# Altium footprint library LQFP.PcbLib: 6 footprints
Each footprint in its own frame and in the unit in brackets; x right, y up, seen from the top. Pads: shape width x height; smd on the part's side, far side on the other; paste and mask are expansions set on the pad; w line width, h text height; cw(c..) or ccw(c..) is an arc to the next point about the centre after c.
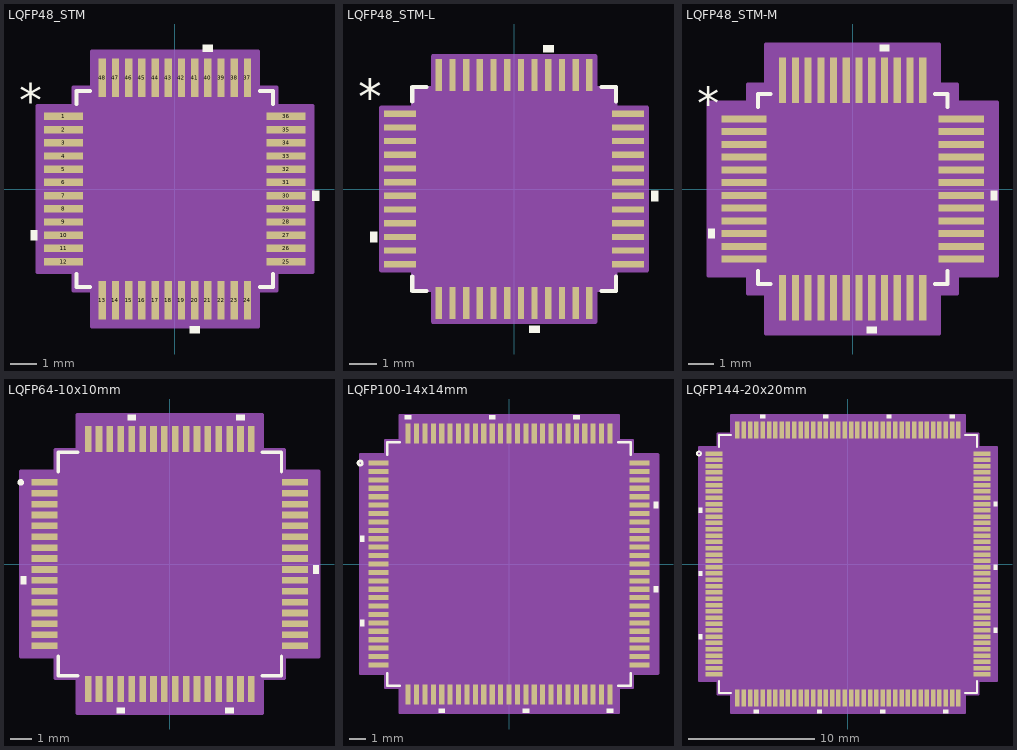
[diagram p0: the footprints below, top view; thin cyan lines are the x and y axes]

## LQFP48_STM [mil]
pads (48):
  rect 58x11 smd paste+0 mask+0: 1(-166,108.27) 2(-166,88.58) 3(-166,68.9) 4(-166,49.21) 5(-166,29.53) 6(-166,9.84) 7(-166,-9.84) 8(-166,-29.53) 9(-166,-49.21) 10(-166,-68.9) 11(-166,-88.58) 12(-166,-108.27) 25(166,-108.27) 26(166,-88.58) 27(166,-68.9) 28(166,-49.21) 29(166,-29.53) 30(166,-9.84) 31(166,9.84) 32(166,29.53) 33(166,49.21) 34(166,68.9) 35(166,88.58) 36(166,108.27)
  rect 11x58 smd paste+0 mask+0: 13(-108.27,-166) 14(-88.58,-166) 15(-68.9,-166) 16(-49.21,-166) 17(-29.53,-166) 18(-9.84,-166) 19(9.84,-166) 20(29.53,-166) 21(49.21,-166) 22(68.9,-166) 23(88.58,-166) 24(108.27,-166) 37(108.27,166) 38(88.58,166) 39(68.9,166) 40(49.21,166) 41(29.53,166) 42(9.84,166) 43(-9.84,166) 44(-29.53,166) 45(-49.21,166) 46(-68.9,166) 47(-88.58,166) 48(-108.27,166)
Top Overlay:
  region: 56.71,205 41.71,205 41.71,215 56.71,215
  region: 205,-2.34 215,-2.34 215,-17.34 205,-17.34
  region: 37.03,-205 22.03,-205 22.03,-215 37.03,-215
  region: -205,-61.4 -215,-61.4 -215,-76.4 -205,-76.4
  lines w6: -146.5,-126.87 -146.5,-146.5 -126.87,-146.5 ; -146.5,126.87 -146.5,146.5 -126.87,146.5 ; 126.87,-146.5 146.5,-146.5 146.5,-126.87 ; 126.87,146.5 146.5,146.5 146.5,126.87
  text "*" at -232.5,108.11 h50
Mechanical 13:
  drawing of 197 lines, arcs and shapes, not listed
  text "*" at -139,93.11 h50
Mechanical 15:
  region: -123.77,-151.5 -151.5,-151.5 -151.5,-123.77 -205,-123.77 -205,123.77 -151.5,123.77 -151.5,151.5 -123.77,151.5 -123.77,205 123.77,205 123.77,151.5 151.5,151.5 151.5,123.77 205,123.77 205,-123.77 151.5,-123.77 151.5,-151.5 123.77,-151.5 123.77,-205 -123.77,-205
  lines w6: -205,-123.77 -205,123.77 -151.5,123.77 -151.5,151.5 -123.77,151.5 -123.77,205 123.77,205 123.77,151.5 151.5,151.5 151.5,123.77 205,123.77 205,-123.77 151.5,-123.77 151.5,-151.5 123.77,-151.5 123.77,-205 -123.77,-205 -123.77,-151.5 -151.5,-151.5 -151.5,-123.77 -205,-123.77
3D body "LQFP48_STM.step": height 63.11, standoff 0, extent -180.98,-180.98 180.98,180.98

## LQFP48_STM-L [mil]
pads (48):
  rect 46x9 smd paste+0 mask+0: 1(-164,108.27) 2(-164,88.58) 3(-164,68.9) 4(-164,49.21) 5(-164,29.53) 6(-164,9.84) 7(-164,-9.84) 8(-164,-29.53) 9(-164,-49.21) 10(-164,-68.9) 11(-164,-88.58) 12(-164,-108.27) 25(164,-108.27) 26(164,-88.58) 27(164,-68.9) 28(164,-49.21) 29(164,-29.53) 30(164,-9.84) 31(164,9.84) 32(164,29.53) 33(164,49.21) 34(164,68.9) 35(164,88.58) 36(164,108.27)
  rect 9x46 smd paste+0 mask+0: 13(-108.27,-164) 14(-88.58,-164) 15(-68.9,-164) 16(-49.21,-164) 17(-29.53,-164) 18(-9.84,-164) 19(9.84,-164) 20(29.53,-164) 21(49.21,-164) 22(68.9,-164) 23(88.58,-164) 24(108.27,-164) 37(108.27,164) 38(88.58,164) 39(68.9,164) 40(49.21,164) 41(29.53,164) 42(9.84,164) 43(-9.84,164) 44(-29.53,164) 45(-49.21,164) 46(-68.9,164) 47(-88.58,164) 48(-108.27,164)
Top Overlay:
  region: 56.71,197 41.71,197 41.71,207 56.71,207
  region: 197,-2.34 207,-2.34 207,-17.34 197,-17.34
  region: 37.03,-197 22.03,-197 22.03,-207 37.03,-207
  region: -197,-61.4 -207,-61.4 -207,-76.4 -197,-76.4
  lines w6: -146.5,-125.87 -146.5,-146.5 -125.87,-146.5 ; -146.5,125.87 -146.5,146.5 -125.87,146.5 ; 125.87,-146.5 146.5,-146.5 146.5,-125.87 ; 125.87,146.5 146.5,146.5 146.5,125.87
  text "*" at -224.5,108.11 h50
Mechanical 13:
  drawing of 197 lines, arcs and shapes, not listed
  text "*" at -139,93.11 h50
Mechanical 15:
  region: -116.77,-145.5 -145.5,-145.5 -145.5,-116.77 -191,-116.77 -191,116.77 -145.5,116.77 -145.5,145.5 -116.77,145.5 -116.77,191 116.77,191 116.77,145.5 145.5,145.5 145.5,116.77 191,116.77 191,-116.77 145.5,-116.77 145.5,-145.5 116.77,-145.5 116.77,-191 -116.77,-191
  lines w6: -191,-116.77 -191,116.77 -145.5,116.77 -145.5,145.5 -116.77,145.5 -116.77,191 116.77,191 116.77,145.5 145.5,145.5 145.5,116.77 191,116.77 191,-116.77 145.5,-116.77 145.5,-145.5 116.77,-145.5 116.77,-191 -116.77,-191 -116.77,-145.5 -145.5,-145.5 -145.5,-116.77 -191,-116.77
3D body "LQFP48_STM.step": height 63.11, standoff 0, extent -180.98,-180.98 180.98,180.98

## LQFP48_STM-M [mil]
pads (48):
  rect 70x11 smd paste+0 mask+0: 1(-168,108.27) 2(-168,88.58) 3(-168,68.9) 4(-168,49.21) 5(-168,29.53) 6(-168,9.84) 7(-168,-9.84) 8(-168,-29.53) 9(-168,-49.21) 10(-168,-68.9) 11(-168,-88.58) 12(-168,-108.27) 25(168,-108.27) 26(168,-88.58) 27(168,-68.9) 28(168,-49.21) 29(168,-29.53) 30(168,-9.84) 31(168,9.84) 32(168,29.53) 33(168,49.21) 34(168,68.9) 35(168,88.58) 36(168,108.27)
  rect 11x70 smd paste+0 mask+0: 13(-108.27,-168) 14(-88.58,-168) 15(-68.9,-168) 16(-49.21,-168) 17(-29.53,-168) 18(-9.84,-168) 19(9.84,-168) 20(29.53,-168) 21(49.21,-168) 22(68.9,-168) 23(88.58,-168) 24(108.27,-168) 37(108.27,168) 38(88.58,168) 39(68.9,168) 40(49.21,168) 41(29.53,168) 42(9.84,168) 43(-9.84,168) 44(-29.53,168) 45(-49.21,168) 46(-68.9,168) 47(-88.58,168) 48(-108.27,168)
Top Overlay:
  region: -213,-61.4 -223,-61.4 -223,-76.4 -213,-76.4
  region: 37.03,-213 22.03,-213 22.03,-223 37.03,-223
  region: 213,-2.34 223,-2.34 223,-17.34 213,-17.34
  region: 56.71,213 41.71,213 41.71,223 56.71,223
  lines w6: -146.5,-126.87 -146.5,-146.5 -126.87,-146.5 ; -146.5,126.87 -146.5,146.5 -126.87,146.5 ; 126.87,-146.5 146.5,-146.5 146.5,-126.87 ; 126.87,146.5 146.5,146.5 146.5,126.87
  text "*" at -240.5,108.11 h50
Mechanical 13:
  drawing of 197 lines, arcs and shapes, not listed
  text "*" at -139,93.11 h50
Mechanical 15:
  region: -133.77,-161.5 -161.5,-161.5 -161.5,-133.77 -223,-133.77 -223,133.77 -161.5,133.77 -161.5,161.5 -133.77,161.5 -133.77,223 133.77,223 133.77,161.5 161.5,161.5 161.5,133.77 223,133.77 223,-133.77 161.5,-133.77 161.5,-161.5 133.77,-161.5 133.77,-223 -133.77,-223
  lines w6: -223,-133.77 -161.5,-133.77 -161.5,-161.5 -133.77,-161.5 -133.77,-223 133.77,-223 133.77,-161.5 161.5,-161.5 161.5,-133.77 223,-133.77 223,133.77 161.5,133.77 161.5,161.5 133.77,161.5 133.77,223 -133.77,223 -133.77,161.5 -161.5,161.5 -161.5,133.77 -223,133.77 -223,-133.77
3D body "LQFP48_STM.step": height 63.11, standoff 0, extent -180.98,-180.98 180.98,180.98

## LQFP64-10x10mm [mil]
pads (64):
  rect 47x12 smd paste+0 mask+0: 1(-226.38,147.64) 2(-226.38,127.95) 3(-226.38,108.27) 4(-226.38,88.58) 5(-226.38,68.9) 6(-226.38,49.21) 7(-226.38,29.53) 8(-226.38,9.84) 9(-226.38,-9.84) 10(-226.38,-29.53) 11(-226.38,-49.21) 12(-226.38,-68.9) 13(-226.38,-88.58) 14(-226.38,-108.27) 15(-226.38,-127.95) 16(-226.38,-147.64) 33(226.38,-147.64) 34(226.38,-127.95) 35(226.38,-108.27) 36(226.38,-88.58) 37(226.38,-68.9) 38(226.38,-49.21) 39(226.38,-29.53) 40(226.38,-9.84) 41(226.38,9.84) 42(226.38,29.53) 43(226.38,49.21) 44(226.38,68.9) 45(226.38,88.58) 46(226.38,108.27) 47(226.38,127.95) 48(226.38,147.64)
  rect 12x47 smd paste+0 mask+0: 17(-147.64,-226.38) 18(-127.95,-226.38) 19(-108.27,-226.38) 20(-88.58,-226.38) 21(-68.9,-226.38) 22(-49.21,-226.38) 23(-29.53,-226.38) 24(-9.84,-226.38) 25(9.84,-226.38) 26(29.53,-226.38) 27(49.21,-226.38) 28(68.9,-226.38) 29(88.58,-226.38) 30(108.27,-226.38) 31(127.95,-226.38) 32(147.64,-226.38) 49(147.64,226.38) 50(127.95,226.38) 51(108.27,226.38) 52(88.58,226.38) 53(68.9,226.38) 54(49.21,226.38) 55(29.53,226.38) 56(9.84,226.38) 57(-9.84,226.38) 58(-29.53,226.38) 59(-49.21,226.38) 60(-68.9,226.38) 61(-88.58,226.38) 62(-108.27,226.38) 63(-127.95,226.38) 64(-147.64,226.38)
Top Overlay:
  circle w6: c-269.72,147.64 r3
  region: -259.88,-22.03 -269.88,-22.03 -269.88,-37.03 -259.88,-37.03
  region: -81.08,-259.88 -96.08,-259.88 -96.08,-269.88 -81.08,-269.88
  region: 115.77,-259.88 100.77,-259.88 100.77,-269.88 115.77,-269.88
  region: 259.88,-2.34 269.88,-2.34 269.88,-17.34 259.88,-17.34
  region: 135.45,259.88 120.45,259.88 120.45,269.88 135.45,269.88
  region: -61.4,259.88 -76.4,259.88 -76.4,269.88 -61.4,269.88
  lines w6: -202,-166.71 -202,-202 -166.71,-202 ; -202,166.71 -202,202 -166.71,202 ; 166.71,-202 202,-202 202,-166.71 ; 166.71,202 202,202 202,166.71
Mechanical 13:
  circle w0: c-177.88,147.64 r3
  lines w1: -197,147 -147,197 ; -197,-197 197,-197 197,197 -197,197 -197,-197
Mechanical 15:
  region: -167.64,-207 -207,-207 -207,-167.64 -269.88,-167.64 -269.88,167.64 -207,167.64 -207,207 -167.64,207 -167.64,269.88 167.64,269.88 167.64,207 207,207 207,167.64 269.88,167.64 269.88,-167.64 207,-167.64 207,-207 167.64,-207 167.64,-269.88 -167.64,-269.88
  lines w6: -269.88,-167.64 -207,-167.64 -207,-207 -167.64,-207 -167.64,-269.88 167.64,-269.88 167.64,-207 207,-207 207,-167.64 269.88,-167.64 269.88,167.64 207,167.64 207,207 167.64,207 167.64,269.88 -167.64,269.88 -167.64,207 -207,207 -207,167.64 -269.88,167.64 -269.88,-167.64
3D body "LQFP64-10x10mm.step": height 63.11, standoff 0, extent -236.1,-236.1 236.1,236.1

## LQFP100-14x14mm [mil]
pads (100):
  rect 47x12 smd paste+0 mask+0: 1(-305.12,236.22) 2(-305.12,216.54) 3(-305.12,196.85) 4(-305.12,177.17) 5(-305.12,157.48) 6(-305.12,137.8) 7(-305.12,118.11) 8(-305.12,98.43) 9(-305.12,78.74) 10(-305.12,59.06) 11(-305.12,39.37) 12(-305.12,19.69) 13(-305.12,0) 14(-305.12,-19.68) 15(-305.12,-39.37) 16(-305.12,-59.06) 17(-305.12,-78.74) 18(-305.12,-98.43) 19(-305.12,-118.11) 20(-305.12,-137.8) 21(-305.12,-157.48) 22(-305.12,-177.17) 23(-305.12,-196.85) 24(-305.12,-216.54) 25(-305.12,-236.22) 51(305.12,-236.22) 52(305.12,-216.54) 53(305.12,-196.85) 54(305.12,-177.17) 55(305.12,-157.48) 56(305.12,-137.8) 57(305.12,-118.11) 58(305.12,-98.43) 59(305.12,-78.74) 60(305.12,-59.06) 61(305.12,-39.37) 62(305.12,-19.68) 63(305.12,0) 64(305.12,19.68) 65(305.12,39.37) 66(305.12,59.06) 67(305.12,78.74) 68(305.12,98.43) 69(305.12,118.11) 70(305.12,137.8) 71(305.12,157.48) 72(305.12,177.17) 73(305.12,196.85) 74(305.12,216.54) 75(305.12,236.22)
  rect 12x47 smd paste+0 mask+0: 26(-236.22,-305.12) 27(-216.54,-305.12) 28(-196.85,-305.12) 29(-177.17,-305.12) 30(-157.48,-305.12) 31(-137.8,-305.12) 32(-118.11,-305.12) 33(-98.43,-305.12) 34(-78.74,-305.12) 35(-59.06,-305.12) 36(-39.37,-305.12) 37(-19.68,-305.12) 38(0,-305.12) 39(19.68,-305.12) 40(39.37,-305.12) 41(59.06,-305.12) 42(78.74,-305.12) 43(98.43,-305.12) 44(118.11,-305.12) 45(137.8,-305.12) 46(157.48,-305.12) 47(177.17,-305.12) 48(196.85,-305.12) 49(216.54,-305.12) 50(236.22,-305.12) 76(236.22,305.12) 77(216.54,305.12) 78(196.85,305.12) 79(177.17,305.12) 80(157.48,305.12) 81(137.8,305.12) 82(118.11,305.12) 83(98.43,305.12) 84(78.74,305.12) 85(59.06,305.12) 86(39.37,305.12) 87(19.68,305.12) 88(0,305.12) 89(-19.68,305.12) 90(-39.37,305.12) 91(-59.06,305.12) 92(-78.74,305.12) 93(-98.43,305.12) 94(-118.11,305.12) 95(-137.8,305.12) 96(-157.48,305.12) 97(-177.17,305.12) 98(-196.85,305.12) 99(-216.54,305.12) 100(-236.22,305.12)
Top Overlay:
  circle w6: c-348.46,236.22 r5
  region: -228.72,338.62 -243.72,338.62 -243.72,348.62 -228.72,348.62
  region: -31.87,338.62 -46.87,338.62 -46.87,348.62 -31.87,348.62
  region: 164.98,338.62 149.98,338.62 149.98,348.62 164.98,348.62
  region: 338.62,145.3 348.62,145.3 348.62,130.3 338.62,130.3
  region: 338.62,-51.56 348.62,-51.56 348.62,-66.56 338.62,-66.56
  region: 243.72,-338.62 228.72,-338.62 228.72,-348.62 243.72,-348.62
  region: 46.87,-338.62 31.87,-338.62 31.87,-348.62 46.87,-348.62
  region: -149.98,-338.62 -164.98,-338.62 -164.98,-348.62 -149.98,-348.62
  region: -338.62,-130.3 -348.62,-130.3 -348.62,-145.3 -338.62,-145.3
  region: -338.62,66.56 -348.62,66.56 -348.62,51.56 -338.62,51.56
  lines w6: -284.5,-255.32 -284.5,-284.5 -255.32,-284.5 ; -284.5,255.32 -284.5,284.5 -255.32,284.5 ; 255.32,-284.5 284.5,-284.5 284.5,-255.32 ; 255.32,284.5 284.5,284.5 284.5,255.32
Mechanical 13:
  circle w0: c-256.62,236.22 r3
  lines w1: -279.5,229.5 -229.5,279.5 ; -279.5,-279.5 -279.5,279.5 279.5,279.5 279.5,-279.5 -279.5,-279.5
Mechanical 15:
  region: -256.22,-289.5 -289.5,-289.5 -289.5,-256.22 -348.62,-256.22 -348.62,256.22 -289.5,256.22 -289.5,289.5 -256.22,289.5 -256.22,348.62 256.22,348.62 256.22,289.5 289.5,289.5 289.5,256.22 348.62,256.22 348.62,-256.22 289.5,-256.22 289.5,-289.5 256.22,-289.5 256.22,-348.62 -256.22,-348.62
  lines w6: -348.62,-256.22 -348.62,256.22 -289.5,256.22 -289.5,289.5 -256.22,289.5 -256.22,348.62 256.22,348.62 256.22,289.5 289.5,289.5 289.5,256.22 348.62,256.22 348.62,-256.22 289.5,-256.22 289.5,-289.5 256.22,-289.5 256.22,-348.62 -256.22,-348.62 -256.22,-289.5 -289.5,-289.5 -289.5,-256.22 -348.62,-256.22
3D body "LQFP100-14x14mm.step": height 63.11, standoff 0, extent -314.84,-314.84 314.84,314.84

## LQFP144-20x20mm [mil]
pads (144):
  rect 53x14 smd paste-26.5 mask-26.5: 1(-418.31,344.49) 2(-418.31,324.8) 3(-418.31,305.12) 4(-418.31,285.43) 5(-418.31,265.75) 6(-418.31,246.06) 7(-418.31,226.38) 8(-418.31,206.69) 9(-418.31,187.01) 10(-418.31,167.32) 11(-418.31,147.64) 12(-418.31,127.95) 13(-418.31,108.27) 14(-418.31,88.58) 15(-418.31,68.9) 16(-418.31,49.21) 17(-418.31,29.53) 18(-418.31,9.84) 19(-418.31,-9.84) 20(-418.31,-29.53) 21(-418.31,-49.21) 22(-418.31,-68.9) 23(-418.31,-88.58) 24(-418.31,-108.27) 25(-418.31,-127.95) 26(-418.31,-147.64) 27(-418.31,-167.32) 28(-418.31,-187.01) 29(-418.31,-206.69) 30(-418.31,-226.38) 31(-418.31,-246.06) 32(-418.31,-265.75) 33(-418.31,-285.43) 34(-418.31,-305.12) 35(-418.31,-324.8) 36(-418.31,-344.49) 73(418.31,-344.49) 74(418.31,-324.8) 75(418.31,-305.12) 76(418.31,-285.43) 77(418.31,-265.75) 78(418.31,-246.06) 79(418.31,-226.38) 80(418.31,-206.69) 81(418.31,-187.01) 82(418.31,-167.32) 83(418.31,-147.64) 84(418.31,-127.95) 85(418.31,-108.27) 86(418.31,-88.58) 87(418.31,-68.9) 88(418.31,-49.21) 89(418.31,-29.53) 90(418.31,-9.84) 91(418.31,9.84) 92(418.31,29.53) 93(418.31,49.21) 94(418.31,68.9) 95(418.31,88.58) 96(418.31,108.27) 97(418.31,127.95) 98(418.31,147.64) 99(418.31,167.32) 100(418.31,187.01) 101(418.31,206.69) 102(418.31,226.38) 103(418.31,246.06) 104(418.31,265.75) 105(418.31,285.43) 106(418.31,305.12) 107(418.31,324.8) 108(418.31,344.49)
  rect 14x53 smd paste-26.5 mask-26.5: 37(-344.49,-418.31) 38(-324.8,-418.31) 39(-305.12,-418.31) 40(-285.43,-418.31) 41(-265.75,-418.31) 42(-246.06,-418.31) 43(-226.38,-418.31) 44(-206.69,-418.31) 45(-187.01,-418.31) 46(-167.32,-418.31) 47(-147.64,-418.31) 48(-127.95,-418.31) 49(-108.27,-418.31) 50(-88.58,-418.31) 51(-68.9,-418.31) 52(-49.21,-418.31) 53(-29.53,-418.31) 54(-9.84,-418.31) 55(9.84,-418.31) 56(29.53,-418.31) 57(49.21,-418.31) 58(68.9,-418.31) 59(88.58,-418.31) 60(108.27,-418.31) 61(127.95,-418.31) 62(147.64,-418.31) 63(167.32,-418.31) 64(187.01,-418.31) 65(206.69,-418.31) 66(226.38,-418.31) 67(246.06,-418.31) 68(265.75,-418.31) 69(285.43,-418.31) 70(305.12,-418.31) 71(324.8,-418.31) 72(344.49,-418.31) 109(344.49,418.31) 110(324.8,418.31) 111(305.12,418.31) 112(285.43,418.31) 113(265.75,418.31) 114(246.06,418.31) 115(226.38,418.31) 116(206.69,418.31) 117(187.01,418.31) 118(167.32,418.31) 119(147.64,418.31) 120(127.95,418.31) 121(108.27,418.31) 122(88.58,418.31) 123(68.9,418.31) 124(49.21,418.31) 125(29.53,418.31) 126(9.84,418.31) 127(-9.84,418.31) 128(-29.53,418.31) 129(-49.21,418.31) 130(-68.9,418.31) 131(-88.58,418.31) 132(-108.27,418.31) 133(-127.95,418.31) 134(-147.64,418.31) 135(-167.32,418.31) 136(-187.01,418.31) 137(-206.69,418.31) 138(-226.38,418.31) 139(-246.06,418.31) 140(-265.75,418.31) 141(-285.43,418.31) 142(-305.12,418.31) 143(-324.8,418.31) 144(-344.49,418.31)
Top Overlay:
  circle w6: c-464.65,344.49 r6
  region: -454.81,174.82 -464.81,174.82 -464.81,159.82 -454.81,159.82
  region: -454.81,-22.03 -464.81,-22.03 -464.81,-37.03 -454.81,-37.03
  region: -454.81,-218.88 -464.81,-218.88 -464.81,-233.88 -454.81,-233.88
  region: -277.93,-454.81 -292.93,-454.81 -292.93,-464.81 -277.93,-464.81
  region: -81.08,-454.81 -96.08,-454.81 -96.08,-464.81 -81.08,-464.81
  region: 115.77,-454.81 100.77,-454.81 100.77,-464.81 115.77,-464.81
  region: 312.62,-454.81 297.62,-454.81 297.62,-464.81 312.62,-464.81
  region: 454.81,-199.19 464.81,-199.19 464.81,-214.19 454.81,-214.19
  region: 454.81,-2.34 464.81,-2.34 464.81,-17.34 454.81,-17.34
  region: 454.81,194.51 464.81,194.51 464.81,179.51 454.81,179.51
  region: 332.3,454.81 317.3,454.81 317.3,464.81 332.3,464.81
  region: 135.45,454.81 120.45,454.81 120.45,464.81 135.45,464.81
  region: -61.4,454.81 -76.4,454.81 -76.4,464.81 -61.4,464.81
  region: -258.25,454.81 -273.25,454.81 -273.25,464.81 -258.25,464.81
  lines w6: -402.5,-364.59 -402.5,-402.5 -364.59,-402.5 ; -402.5,364.59 -402.5,402.5 -364.59,402.5 ; 364.59,-402.5 402.5,-402.5 402.5,-364.59 ; 364.59,402.5 402.5,402.5 402.5,364.59
Mechanical 13:
  circle w0: c-366.81,344.49 r3
  lines w1: -397.5,347.5 -347.5,397.5 ; -397.5,-397.5 397.5,-397.5 397.5,397.5 -397.5,397.5 -397.5,-397.5
Mechanical 15:
  region: -364.49,-407.5 -407.5,-407.5 -407.5,-364.49 -464.81,-364.49 -464.81,364.49 -407.5,364.49 -407.5,407.5 -364.49,407.5 -364.49,464.81 364.49,464.81 364.49,407.5 407.5,407.5 407.5,364.49 464.81,364.49 464.81,-364.49 407.5,-364.49 407.5,-407.5 364.49,-407.5 364.49,-464.81 -364.49,-464.81
  lines w6: -464.81,-364.49 -407.5,-364.49 -407.5,-407.5 -364.49,-407.5 -364.49,-464.81 364.49,-464.81 364.49,-407.5 407.5,-407.5 407.5,-364.49 464.81,-364.49 464.81,364.49 407.5,364.49 407.5,407.5 364.49,407.5 364.49,464.81 -364.49,464.81 -364.49,407.5 -407.5,407.5 -407.5,364.49 -464.81,364.49 -464.81,-364.49
3D body "LQFP144-20x20mm.step": height 63.11, standoff 0, extent -431.02,-431.02 431.02,431.02